# Altium footprint library TDFN-EP(3.0X3.0).PcbLib: 1 footprints
Each footprint in its own frame and in the unit in brackets; x right, y up, seen from the top. Pads: shape width x height; smd on the part's side, far side on the other; paste and mask are expansions set on the pad; w line width, h text height; cw(c..) or ccw(c..) is an arc to the next point about the centre after c.
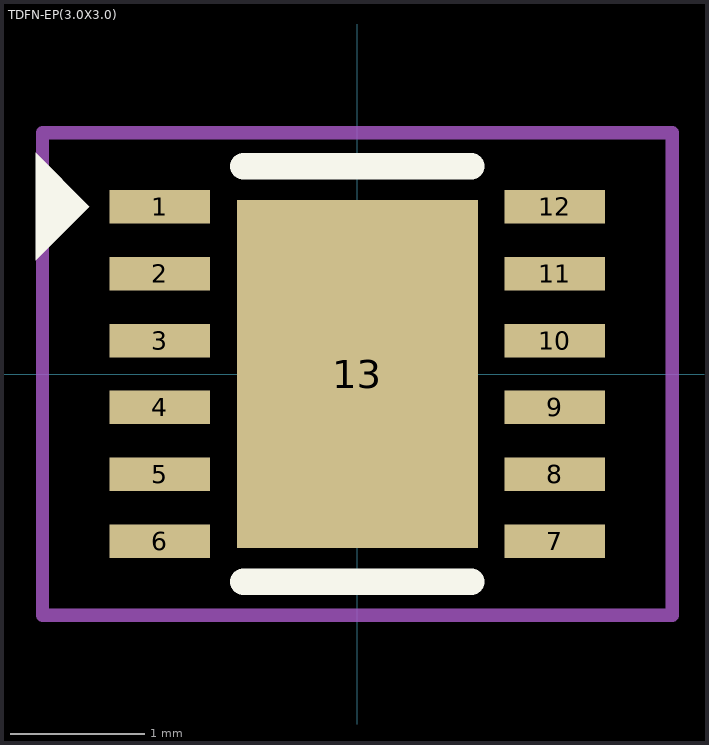
[diagram p0: the footprint, top view; thin cyan lines are the x and y axes]

## TDFN-EP(3.0X3.0) [mm]
pads (13):
  rect 0.75x0.25 smd: 1(-1.475,1.25) 2(-1.475,0.75) 3(-1.475,0.25) 4(-1.475,-0.25) 5(-1.475,-0.75) 6(-1.475,-1.25) 7(1.475,-1.25) 8(1.475,-0.75) 9(1.475,-0.25) 10(1.475,0.25) 11(1.475,0.75) 12(1.475,1.25)
  rect 1.8x2.6 smd: 13(0,0)
Top Overlay:
  region: -2.4,0.85 -2.4,1.65 -2,1.25
  lines w0.2: -0.85,-1.55 0.85,-1.55 ; -0.85,1.55 0.85,1.55
Top Courtyard:
  lines w0.1: -2.35,-1.799 -1.549,-1.799 2.35,-1.799 2.35,1.799 -2.35,1.799 -2.35,-1.799
3D body "21-0664B_MXM.step": height 0.81, standoff 0, extent -1.549,-1.549 1.549,1.549